# Altium schematic symbol library SRR06044R7ML.SchLib: 2 symbols
Pins are listed as number, name and electrical type; pins without a type are passive.

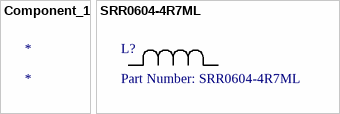
[diagram p0: symbols Component_1 to SRR0604-4R7ML]

## Component_1
designator *

## SRR0604-4R7ML
designator L?, comment Part Number: SRR0604-4R7ML
No Description Available; Vendor: Bourns Electronics; Built_By: EMA_UL_Team; Type: DEV; Manufacturer_Part_Number: SRR0604-4R7ML; Copyright: Copyright (C) 2018 Accelerated Designs. All rights reserved; RefDes: RefDes; Value: Value
footprint IND_BOURNS_SRR06
pins: 1, 2